# Altium schematic symbol library Power_management.SchLib: 4 symbols
Pins are listed as number, name and electrical type; pins without a type are passive.

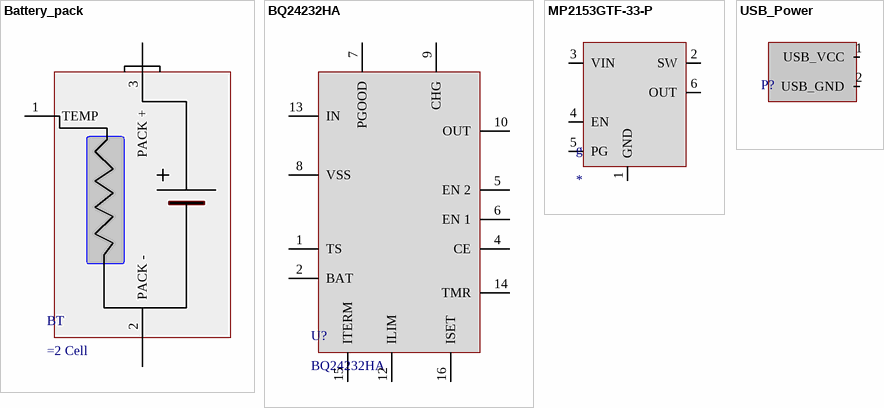
[diagram p0: symbols Battery_pack to USB_Power]

## Battery_pack
designator BT
Battery_name: *; Cell_quantity: *; Cell_batteries: *
pins: 1 TEMP, 2 PACK -, 3 PACK +

## BQ24232HA
designator U?
footprint RGT0016C
pins: 1 TS, 2 BAT, 4 CE, 5 EN 2, 6 EN 1, 7 PGOOD, 8 VSS, 9 CHG, 10 OUT, 12 ILIM, 13 IN, 14 TMR, 15 ITERM, 16 ISET

## MP2153GTF-33-P
designator g
footprint SOT563
pins: 1 GND, 2 SW, 3 VIN, 4 EN, 5 PG, 6 OUT

## USB_Power
designator P?
pins: 1 USB_VCC, 2 USB_GND